# Altium schematic symbol library Relay,DPDT,2A,5VDC.Schlib: 1 symbol
Pins are listed as number, name and electrical type; pins without a type are passive.

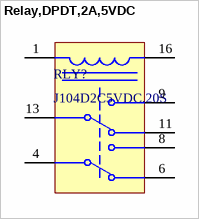
[diagram p0: symbol Relay,DPDT,2A,5VDC]

## Relay,DPDT,2A,5VDC
designator RLY?, comment J104D2C5VDC.20S
General Purpose Relay DPDT (2 Form C) Through Hole
pins: 1 COILP, 4 C1, 6 NC1, 8 NO1, 9 NO2, 11 NC2, 13 C2, 16 COILN